# Altium schematic symbol library C1671.SchLib: 1 symbol
Pins are listed as number, name and electrical type; pins without a type are passive.

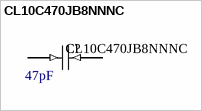
[diagram p0: symbol CL10C470JB8NNNC]

## CL10C470JB8NNNC
designator C?  value 47pF
47pF ±5% 50V Ceramic Capacitor C0G 0603; Name: C1671; Source: LCSC
footprint C0603 (1uF ±10% 50V Ceramic Capacitor X5R 0603)
pins: 1 (in), 2 (in)